# EAGLE library part MCP2561 (library Semiconductors > Integrated Circuits - ICs > Interface ICs > CAN Interface IC)
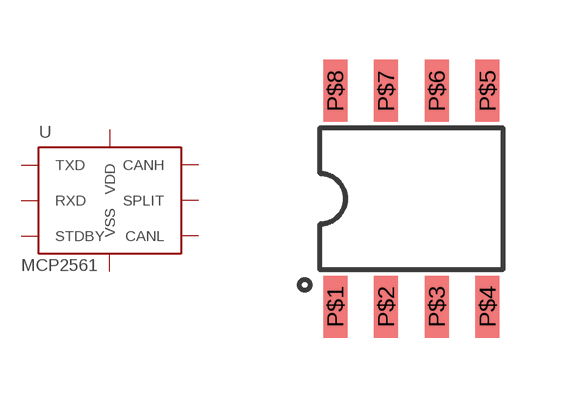
[diagram p1: symbol with the pads of SOIC_8; footprint SOIC_8]

Designator prefix U

## MCP2561  [SOIC_8]
P$1  TXD
P$2  VSS
P$3  VDD
P$4  RXD
P$5  SPLIT  pwr
P$6  CANL
P$7  CANH
P$8  STDBY

## Footprint SOIC_8 (pad centres in mm)
8-Lead Plastic Small Outline (SN) - Narrow, 3.90 mm Body [SOIC]
smd 0.6 x 1.55: P$1 -1.905,-2.7; P$2 -0.635,-2.7; P$3 0.635,-2.7; P$4 1.905,-2.7; P$5 1.905,2.7; P$6 0.635,2.7; P$7 -0.635,2.7; P$8 -1.905,2.7